# EAGLE library part 5M80ZE64C5N (library altera-cyclone)
IC CPLD 64MC 7.5NS 64EQFP
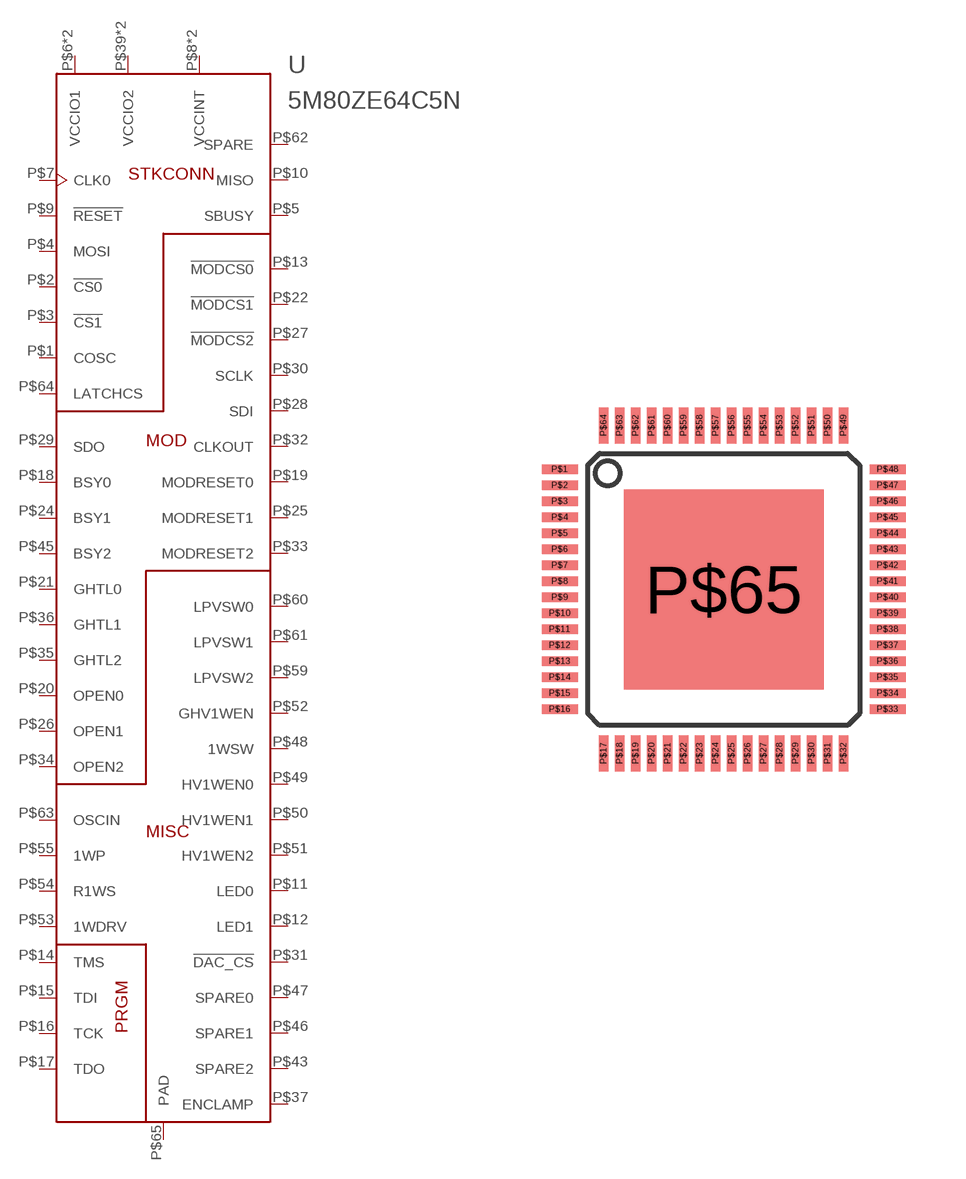
[diagram p6: symbol with the pads of EQFP64PAD; footprint EQFP64PAD]

Designator prefix U

## 5M80ZE64C5N (DIGIKEY: 544-2715-ND)  [EQFP64PAD]
P$1  COSC
P$2  !CS0
P$3  !CS1
P$4  MOSI
P$5  SBUSY
P$6  VCCIO1
P$7  CLK0
P$8  VCCINT
P$9  !RESET
P$10  MISO
P$11  LED0
P$12  LED1
P$13  !MODCS0
P$14  TMS
P$15  TDI
P$16  TCK
P$17  TDO
P$18  BSY0
P$19  MODRESET0
P$20  OPEN0
P$21  GHTL0
P$22  !MODCS1
P$23  VCCIO1
P$24  BSY1
P$25  MODRESET1
P$26  OPEN1
P$27  !MODCS2
P$28  SDI
P$29  SDO
P$30  SCLK
P$31  !DAC_CS
P$32  CLKOUT
P$33  MODRESET2
P$34  OPEN2
P$35  GHTL2
P$36  GHTL1
P$37  ENCLAMP
P$39  VCCIO2
P$41  VCCINT
P$43  SPARE2
P$45  BSY2
P$46  SPARE1
P$47  SPARE0
P$48  1WSW
P$49  HV1WEN0
P$50  HV1WEN1
P$51  HV1WEN2
P$52  GHV1WEN
P$53  1WDRV
P$54  R1WS
P$55  1WP
P$57  VCCIO2
P$59  LPVSW2
P$60  LPVSW0
P$61  LPVSW1
P$62  SPARE
P$63  OSCIN
P$64  LATCHCS
P$65  PAD

## Footprint EQFP64PAD (pad centres in mm)
smd 0.9 x 0.23: P$1 -4.1,3; P$2 -4.1,2.6; P$3 -4.1,2.2; P$4 -4.1,1.8; P$5 -4.1,1.4; P$6 -4.1,1; P$7 -4.1,0.6; P$8 -4.1,0.2; P$9 -4.1,-0.2; P$10 -4.1,-0.6; P$11 -4.1,-1; P$12 -4.1,-1.4; P$13 -4.1,-1.8; P$14 -4.1,-2.2; P$15 -4.1,-2.6; P$16 -4.1,-3; P$33 4.1,-3; P$34 4.1,-2.6; P$35 4.1,-2.2; P$36 4.1,-1.8; P$37 4.1,-1.4; P$38 4.1,-1; P$39 4.1,-0.6; P$40 4.1,-0.2; P$41 4.1,0.2; P$42 4.1,0.6; P$43 4.1,1; P$44 4.1,1.4; P$45 4.1,1.8; P$46 4.1,2.2; P$47 4.1,2.6; P$48 4.1,3
smd 0.23 x 0.9: P$17 -3,-4.1; P$18 -2.6,-4.1; P$19 -2.2,-4.1; P$20 -1.8,-4.1; P$21 -1.4,-4.1; P$22 -1,-4.1; P$23 -0.6,-4.1; P$24 -0.2,-4.1; P$25 0.2,-4.1; P$26 0.6,-4.1; P$27 1,-4.1; P$28 1.4,-4.1; P$29 1.8,-4.1; P$30 2.2,-4.1; P$31 2.6,-4.1; P$32 3,-4.1; P$49 3,4.1; P$50 2.6,4.1; P$51 2.2,4.1; P$52 1.8,4.1; P$53 1.4,4.1; P$54 1,4.1; P$55 0.6,4.1; P$56 0.2,4.1; P$57 -0.2,4.1; P$58 -0.6,4.1; P$59 -1,4.1; P$60 -1.4,4.1; P$61 -1.8,4.1; P$62 -2.2,4.1; P$63 -2.6,4.1; P$64 -3,4.1
smd 5 x 5: P$65 0,0